# EAGLE library part 24LC32A (library Ai_IC)
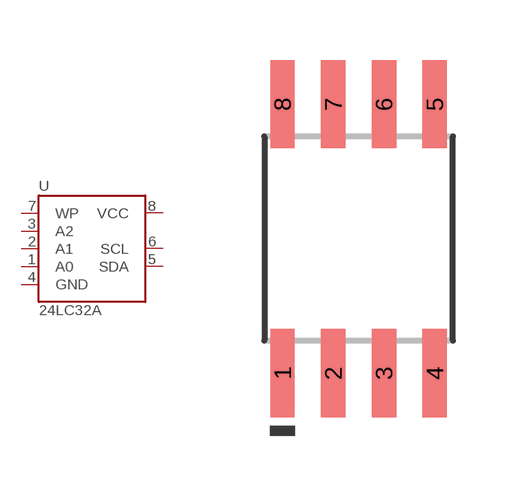
[diagram p19: symbol with the pads of SO08-EIAJ; footprint SO08-EIAJ]

Designator prefix U

## 24LC32A  [SO08-EIAJ]
1  A0
2  A1
3  A2
4  GND
5  SDA
6  SCL
7  WP
8  VCC

## Footprint SO08-EIAJ (pad centres in mm)
smd 0.61 x 2.21: 1 -1.905,-3.378; 2 -0.635,-3.378; 3 0.635,-3.378; 4 1.905,-3.378; 5 1.905,3.353; 6 0.635,3.353; 7 -0.635,3.353; 8 -1.905,3.353